# Altium schematic symbol library SnapEDAsch.SchLib: 1 symbol
Pins are listed as number, name and electrical type; pins without a type are passive.

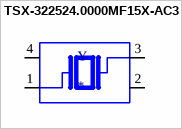
[diagram p0: symbol TSX-322524.0000MF15X-AC3]

## TSX-322524.0000MF15X-AC3
designator Y
24MHz Â±10ppm Crystal 9pF 40 Ohms 4-SMD, No Lead; MF: EPSON; MP: TSX-3225 24.0000MF15X-AC3; Availability: Unavailable; Value: *; Package: SMD-4 EPSON; Price: None; SnapEDA_Link: https://www.snapeda.com/parts/TSX-3225%2024.0000MF15X-AC3/EPSON/view-part/230042/?ref=snap
footprint OSCCC320X250X60
pins: 1, 2, 3, 4